# Altium footprint library 901362106.PcbLib: 1 footprints
Each footprint in its own frame and in the unit in brackets; x right, y up, seen from the top. Pads: shape width x height; smd on the part's side, far side on the other; paste and mask are expansions set on the pad; w line width, h text height; cw(c..) or ccw(c..) is an arc to the next point about the centre after c.
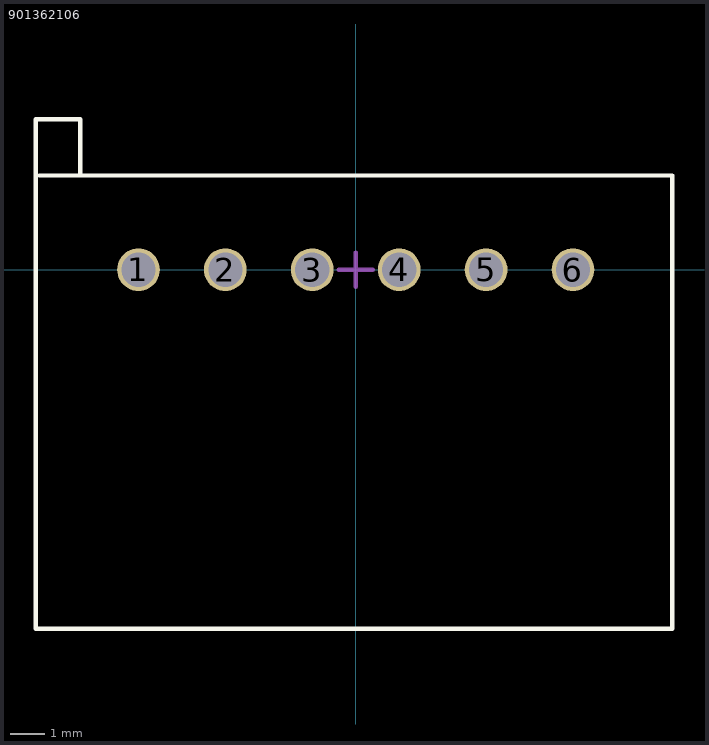
[diagram p0: the footprint, top view; thin cyan lines are the x and y axes]

## 901362106 [mm]
pads (6):
  round 1.25 hole 1 mask+0.1: 1(-6.35,0) 2(-3.81,0) 3(-1.27,0) 4(1.27,0) 5(3.81,0) 6(6.35,0)
Top Overlay:
  lines w0.127: -9.25,2.75 9.25,2.75 9.25,-10.5 2.2,-10.5 -9.35,-10.5 -9.35,3.7 -9.35,4.4 -8.05,4.4 -8.05,2.75
Mechanical 15:
  lines w0.127: -1.27,0 -0.77,0 ; -0.5,0 0,0 0.5,0 ; 0,-0.5 0,0.5
3D body "90136-2106.stp": height 8.6, standoff -1.51, extent -9.295,-10.45 9.295,2.69